# Altium schematic symbol library Y.SchLib: 6 symbols
Pins are listed as number, name and electrical type; pins without a type are passive.

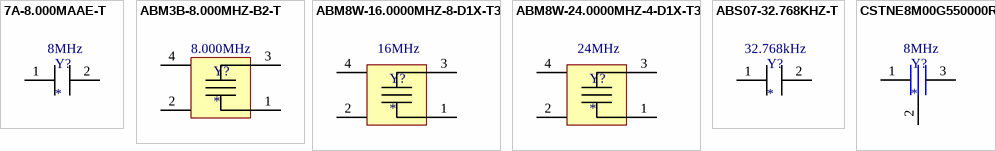
[diagram p0: symbols 7A-8.000MAAE-T to CSTNE8M00G550000R0]

## 7A-8.000MAAE-T
designator Y?  value 8MHz
Crystals 8.0000MHz 12pf 3.2 x 1.5 x 0.9mm
footprint TXC 7A
pins: 1, 2

## ABM3B-8.000MHZ-B2-T
designator Y?  value 8.000MHz
CRYSTAL 8.0000MHZ 8PF SMD
footprint XTALSMD3225 (Crystal Package 4-SMD 3.2x2.5mm)
pins: 1, 2 GND, 3, 4 GND

## ABM8W-16.0000MHZ-8-D1X-T3
designator Y?  value 16MHz
CRYSTAL 16.0000MHZ 8PF SMD
footprint XTALSMD3225 (Crystal Package 4-SMD 3.2x2.5mm)
pins: 1, 2 GND, 3, 4 GND

## ABM8W-24.0000MHZ-4-D1X-T3
designator Y?  value 24MHz
Crystals 24MHz 4pF -40C +85C10ppm
footprint XTALSMD3225 (Crystal Package 4-SMD 3.2x2.5mm)
pins: 1, 2 GND, 3, 4 GND

## ABS07-32.768KHZ-T
designator Y?  value 32.768kHz
Crystals 32.768KHz 12.5pf 3.2 x 1.5 x 0.9mm
footprint Abracon ABS07
pins: 1, 2

## CSTNE8M00G550000R0
designator Y?  value 8MHz
Ceramic Resonator 8.0000MHz 33pf 0.5%
footprint MuRata CSTN (Crystal Package 4-SMD 3.2x2.5mm)
pins: 1, 2, 3